# EAGLE library part CPC2030N (library SamacSysImported)
MOSFET Output Optocouplers Dual SP Open Relay 8-Pin SOIC OptoMOS Source: Datasheet <https://componentsearchengine.com/Datasheets/1/CPC2030N.pdf>
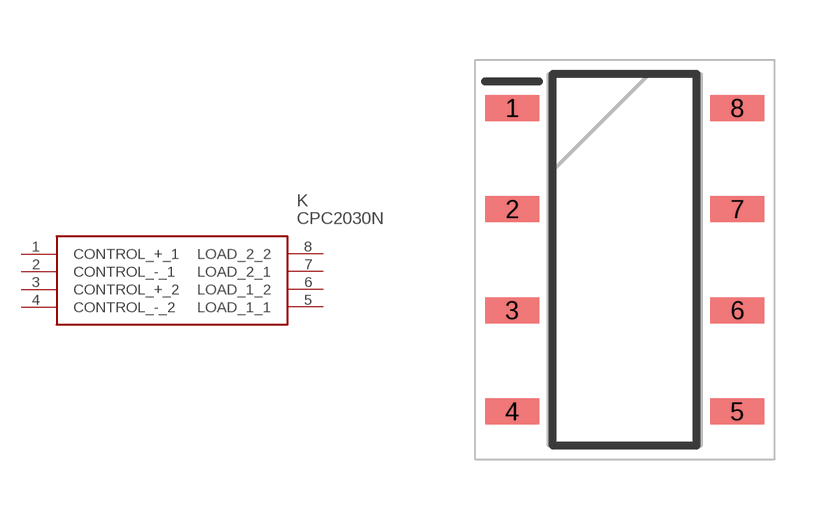
[diagram p2: symbol with the pads of SOP254P610X218-8N; footprint SOP254P610X218-8N]

Designator prefix K

## CPC2030N (Description: MOSFET Output Optocouplers Dual SP Open Relay 8-Pin SOIC OptoMOS; Height: 2.184mm; Manufacturer_Name: IXYS SEMICONDUCTOR; Manufacturer_Part_Number: CPC2030N; Mouser_Part_Number: 849-CPC2030N; Mouser_Price-Stock: https://www.mouser.com/Search/Refine.aspx?Keyword=849-CPC2030N)  [SOP254P610X218-8N]
1  CONTROL_+_1  pwr
2  CONTROL_-_1  pwr
3  CONTROL_+_2  pwr
4  CONTROL_-_2  pwr
5  LOAD_1_1
6  LOAD_1_2
7  LOAD_2_1
8  LOAD_2_2

## Footprint SOP254P610X218-8N (pad centres in mm)
CPC2030N - 8-Pin SOIC
smd 1.35 x 0.65: 1 -2.825,3.81; 2 -2.825,1.27; 3 -2.825,-1.27; 4 -2.825,-3.81; 5 2.825,-3.81; 6 2.825,-1.27; 7 2.825,1.27; 8 2.825,3.81